# Altium schematic symbol library SCH - MCU - SI LABS - SI LABS EFR32MG12P232F512GM68 68-PIN QFN 8X8.SchLib: 1 symbol
Pins are listed as number, name and electrical type; pins without a type are passive.

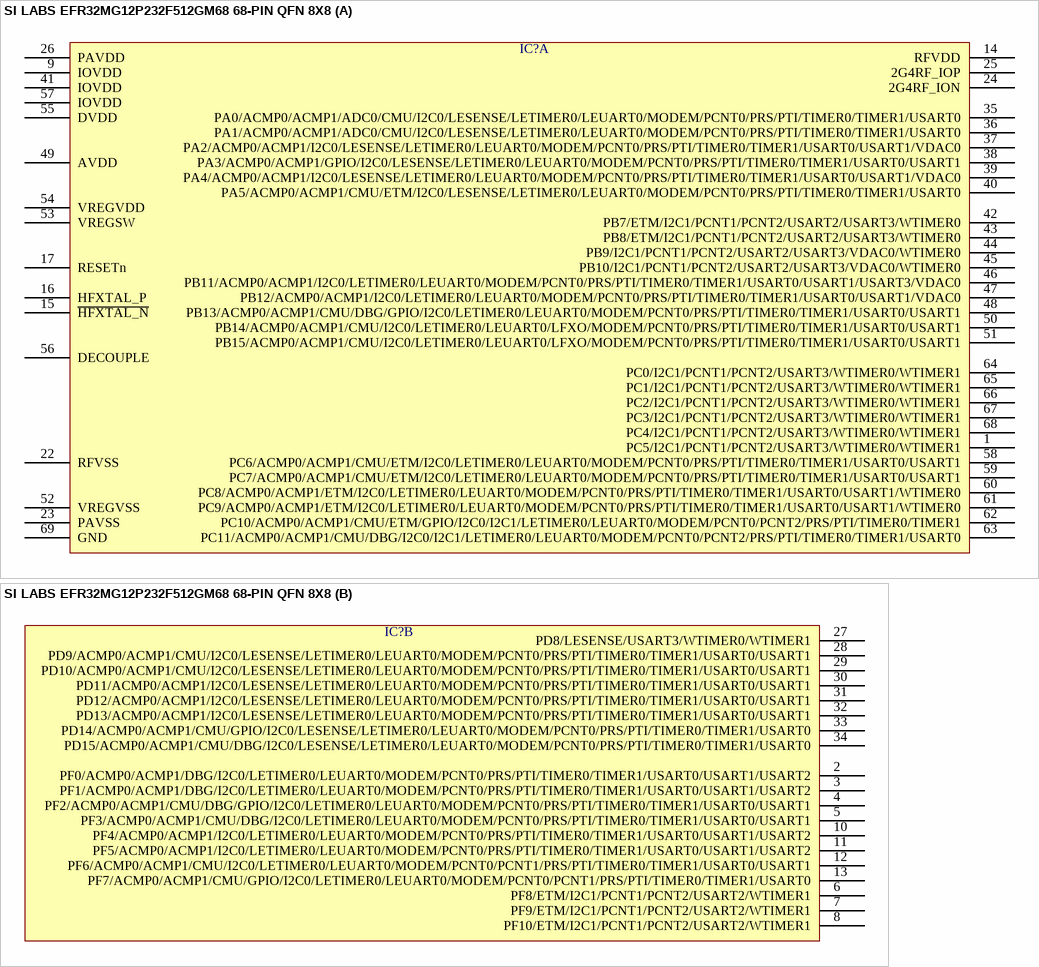
[diagram p0: symbol SI LABS EFR32MG12P232F512GM68 68-PIN QFN 8X8]

## SI LABS EFR32MG12P232F512GM68 68-PIN QFN 8X8
designator IC?  (value not drawn)
part A pins: 1 PC5/I2C1/PCNT1/PCNT2/USART3/WTIMER0/WTIMER1, 9 IOVDD, 14 RFVDD, 15 ~{HFXTAL_N}, 16 HFXTAL_P, 17 RESETn, 22 RFVSS, 23 PAVSS, 24 2G4RF_ION, 25 2G4RF_IOP, 26 PAVDD, 35 PA0/ACMP0/ACMP1/ADC0/CMU/I2C0/LESENSE/LETIMER0/LEUART0/MODEM/PCNT0/PRS/PTI/TIMER0/TIMER1/USART0, 36 PA1/ACMP0/ACMP1/ADC0/CMU/I2C0/LESENSE/LETIMER0/LEUART0/MODEM/PCNT0/PRS/PTI/TIMER0/TIMER1/USART0, 37 PA2/ACMP0/ACMP1/I2C0/LESENSE/LETIMER0/LEUART0/MODEM/PCNT0/PRS/PTI/TIMER0/TIMER1/USART0/USART1/VDAC0, 38 PA3/ACMP0/ACMP1/GPIO/I2C0/LESENSE/LETIMER0/LEUART0/MODEM/PCNT0/PRS/PTI/TIMER0/TIMER1/USART0/USART1, 39 PA4/ACMP0/ACMP1/I2C0/LESENSE/LETIMER0/LEUART0/MODEM/PCNT0/PRS/PTI/TIMER0/TIMER1/USART0/USART1/VDAC0, 40 PA5/ACMP0/ACMP1/CMU/ETM/I2C0/LESENSE/LETIMER0/LEUART0/MODEM/PCNT0/PRS/PTI/TIMER0/TIMER1/USART0, 41 IOVDD, 42 PB7/ETM/I2C1/PCNT1/PCNT2/USART2/USART3/WTIMER0, 43 PB8/ETM/I2C1/PCNT1/PCNT2/USART2/USART3/WTIMER0, 44 PB9/I2C1/PCNT1/PCNT2/USART2/USART3/VDAC0/WTIMER0, 45 PB10/I2C1/PCNT1/PCNT2/USART2/USART3/VDAC0/WTIMER0, 46 PB11/ACMP0/ACMP1/I2C0/LETIMER0/LEUART0/MODEM/PCNT0/PRS/PTI/TIMER0/TIMER1/USART0/USART1/USART3/VDAC0, 47 PB12/ACMP0/ACMP1/I2C0/LETIMER0/LEUART0/MODEM/PCNT0/PRS/PTI/TIMER0/TIMER1/USART0/USART1/VDAC0, 48 PB13/ACMP0/ACMP1/CMU/DBG/GPIO/I2C0/LETIMER0/LEUART0/MODEM/PCNT0/PRS/PTI/TIMER0/TIMER1/USART0/USART1, 49 AVDD, 50 PB14/ACMP0/ACMP1/CMU/I2C0/LETIMER0/LEUART0/LFXO/MODEM/PCNT0/PRS/PTI/TIMER0/TIMER1/USART0/USART1, 51 PB15/ACMP0/ACMP1/CMU/I2C0/LETIMER0/LEUART0/LFXO/MODEM/PCNT0/PRS/PTI/TIMER0/TIMER1/USART0/USART1, 52 VREGVSS, 53 VREGSW, 54 VREGVDD, 55 DVDD, 56 DECOUPLE, 57 IOVDD, 58 PC6/ACMP0/ACMP1/CMU/ETM/I2C0/LETIMER0/LEUART0/MODEM/PCNT0/PRS/PTI/TIMER0/TIMER1/USART0/USART1, 59 PC7/ACMP0/ACMP1/CMU/ETM/I2C0/LETIMER0/LEUART0/MODEM/PCNT0/PRS/PTI/TIMER0/TIMER1/USART0/USART1, 60 PC8/ACMP0/ACMP1/ETM/I2C0/LETIMER0/LEUART0/MODEM/PCNT0/PRS/PTI/TIMER0/TIMER1/USART0/USART1/WTIMER0, 61 PC9/ACMP0/ACMP1/ETM/I2C0/LETIMER0/LEUART0/MODEM/PCNT0/PRS/PTI/TIMER0/TIMER1/USART0/USART1/WTIMER0, 62 PC10/ACMP0/ACMP1/CMU/ETM/GPIO/I2C0/I2C1/LETIMER0/LEUART0/MODEM/PCNT0/PCNT2/PRS/PTI/TIMER0/TIMER1, 63 PC11/ACMP0/ACMP1/CMU/DBG/I2C0/I2C1/LETIMER0/LEUART0/MODEM/PCNT0/PCNT2/PRS/PTI/TIMER0/TIMER1/USART0, 64 PC0/I2C1/PCNT1/PCNT2/USART3/WTIMER0/WTIMER1, 65 PC1/I2C1/PCNT1/PCNT2/USART3/WTIMER0/WTIMER1, 66 PC2/I2C1/PCNT1/PCNT2/USART3/WTIMER0/WTIMER1, 67 PC3/I2C1/PCNT1/PCNT2/USART3/WTIMER0/WTIMER1, 68 PC4/I2C1/PCNT1/PCNT2/USART3/WTIMER0/WTIMER1, 69 GND
part B pins: 2 PF0/ACMP0/ACMP1/DBG/I2C0/LETIMER0/LEUART0/MODEM/PCNT0/PRS/PTI/TIMER0/TIMER1/USART0/USART1/USART2, 3 PF1/ACMP0/ACMP1/DBG/I2C0/LETIMER0/LEUART0/MODEM/PCNT0/PRS/PTI/TIMER0/TIMER1/USART0/USART1/USART2, 4 PF2/ACMP0/ACMP1/CMU/DBG/GPIO/I2C0/LETIMER0/LEUART0/MODEM/PCNT0/PRS/PTI/TIMER0/TIMER1/USART0/USART1, 5 PF3/ACMP0/ACMP1/CMU/DBG/I2C0/LETIMER0/LEUART0/MODEM/PCNT0/PRS/PTI/TIMER0/TIMER1/USART0/USART1, 6 PF8/ETM/I2C1/PCNT1/PCNT2/USART2/WTIMER1, 7 PF9/ETM/I2C1/PCNT1/PCNT2/USART2/WTIMER1, 8 PF10/ETM/I2C1/PCNT1/PCNT2/USART2/WTIMER1, 10 PF4/ACMP0/ACMP1/I2C0/LETIMER0/LEUART0/MODEM/PCNT0/PRS/PTI/TIMER0/TIMER1/USART0/USART1/USART2, 11 PF5/ACMP0/ACMP1/I2C0/LETIMER0/LEUART0/MODEM/PCNT0/PRS/PTI/TIMER0/TIMER1/USART0/USART1/USART2, 12 PF6/ACMP0/ACMP1/CMU/I2C0/LETIMER0/LEUART0/MODEM/PCNT0/PCNT1/PRS/PTI/TIMER0/TIMER1/USART0/USART1, 13 PF7/ACMP0/ACMP1/CMU/GPIO/I2C0/LETIMER0/LEUART0/MODEM/PCNT0/PCNT1/PRS/PTI/TIMER0/TIMER1/USART0, 27 PD8/LESENSE/USART3/WTIMER0/WTIMER1, 28 PD9/ACMP0/ACMP1/CMU/I2C0/LESENSE/LETIMER0/LEUART0/MODEM/PCNT0/PRS/PTI/TIMER0/TIMER1/USART0/USART1, 29 PD10/ACMP0/ACMP1/CMU/I2C0/LESENSE/LETIMER0/LEUART0/MODEM/PCNT0/PRS/PTI/TIMER0/TIMER1/USART0/USART1, 30 PD11/ACMP0/ACMP1/I2C0/LESENSE/LETIMER0/LEUART0/MODEM/PCNT0/PRS/PTI/TIMER0/TIMER1/USART0/USART1, 31 PD12/ACMP0/ACMP1/I2C0/LESENSE/LETIMER0/LEUART0/MODEM/PCNT0/PRS/PTI/TIMER0/TIMER1/USART0/USART1, 32 PD13/ACMP0/ACMP1/I2C0/LESENSE/LETIMER0/LEUART0/MODEM/PCNT0/PRS/PTI/TIMER0/TIMER1/USART0/USART1, 33 PD14/ACMP0/ACMP1/CMU/GPIO/I2C0/LESENSE/LETIMER0/LEUART0/MODEM/PCNT0/PRS/PTI/TIMER0/TIMER1/USART0, 34 PD15/ACMP0/ACMP1/CMU/DBG/I2C0/LESENSE/LETIMER0/LEUART0/MODEM/PCNT0/PRS/PTI/TIMER0/TIMER1/USART0